# EAGLE library part RTS-5 (library mynixies)
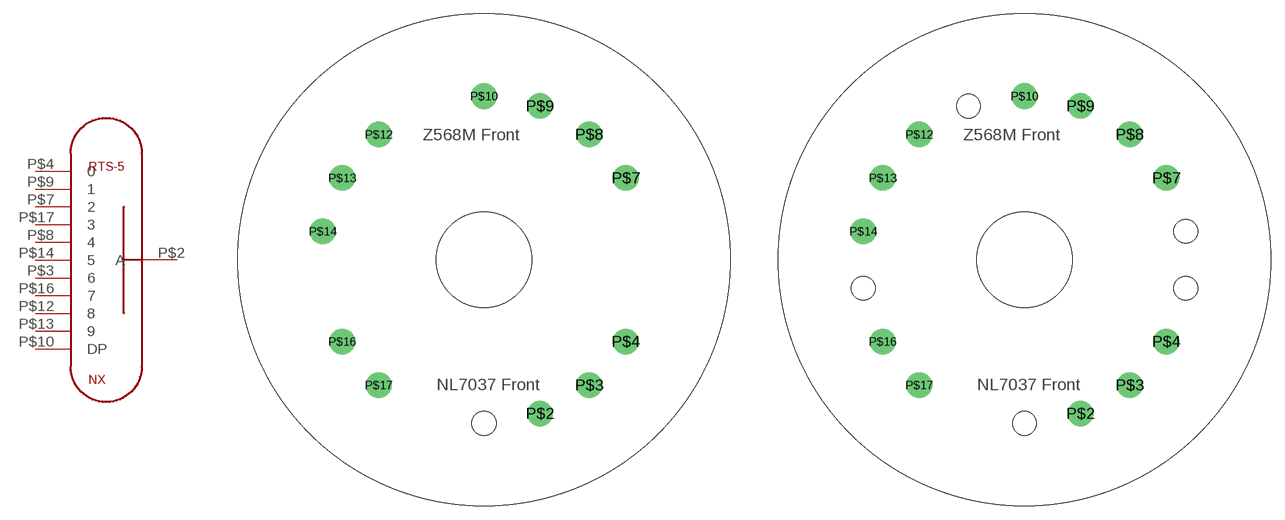
[diagram p20: symbol with the pads of RTS-5-DUAL; footprints RTS-5-DUAL, RTS-5-DUAL-ALLPINS]

Designator prefix NX

## RTS-5  [RTS-5-DUAL]
P$2  A  pas
P$3  6  pas
P$4  0  pas
P$7  2  pas
P$8  4  pas
P$9  1  pas
P$10  DP  pas
P$12  8  pas
P$13  9  pas
P$14  5  pas
P$16  7  pas
P$17  3  pas

## RTS-5ALLPINS  [RTS-5-DUAL-ALLPINS]
Pads as for RTS-5-DUAL

## RTS-5NL8091  [RTS-5-TOP-VIEW]
P$2  A  pas
P$3  0  pas
P$4  9  pas
P$7  8  pas
P$8  7  pas
P$9  6  pas
P$10  DP  pas
P$12  5  pas
P$13  4  pas
P$14  3  pas
P$16  2  pas
P$17  1  pas

## Footprint RTS-5-DUAL (pad centres in mm)
drill 1.829: P$2 5.973,-16.409; P$3 11.225,-13.377; P$4 15.123,-8.731; P$7 15.123,8.731; P$8 11.225,13.377; P$9 5.973,16.409; P$10 0,17.462; P$12 -11.225,13.377; P$13 -15.123,8.731; P$14 -17.197,3.032; P$16 -15.123,-8.731; P$17 -11.225,-13.377
hole 10.16 at 0,0

## Footprint RTS-5-DUAL-ALLPINS (pad centres in mm)
drill 1.829: P$2 5.973,-16.409; P$3 11.225,-13.377; P$4 15.123,-8.731; P$7 15.123,8.731; P$8 11.225,13.377; P$9 5.973,16.409; P$10 0,17.462; P$12 -11.225,13.377; P$13 -15.123,8.731; P$14 -17.197,3.032; P$16 -15.123,-8.731; P$17 -11.225,-13.377
hole 10.16 at 0,0
hole 2.54 at 0,-17.462
hole 2.54 at 17.197,-3.032
hole 2.54 at 17.197,3.032
hole 2.54 at -5.973,16.409
hole 2.54 at -17.197,-3.032

## Footprint RTS-5-TOP-VIEW (pad centres in mm)
drill 1.829: P$2 5.973,-16.409; P$3 11.225,-13.377; P$4 15.123,-8.731; P$7 15.123,8.731; P$8 11.225,13.377; P$9 5.973,16.409; P$10 0,17.462; P$12 -11.225,13.377; P$13 -15.123,8.731; P$14 -17.197,3.032; P$16 -15.123,-8.731; P$17 -11.225,-13.377
hole 10.16 at 0,0
hole 2.54 at 0,-17.462
hole 2.54 at 17.197,-3.032
hole 2.54 at 17.197,3.032
hole 2.54 at -5.973,16.409
hole 2.54 at -17.197,-3.032